# EAGLE library part WSON (library TPS62751DSKT)
WSON package
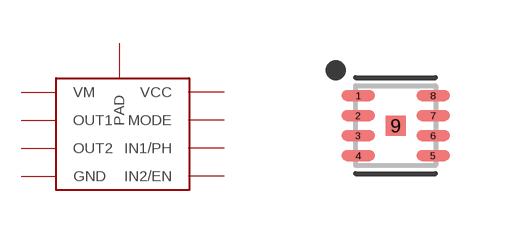
[diagram p0: symbol with the pads of SON50P200X200X75-9T50N; footprint SON50P200X200X75-9T50N]

Designator prefix -

## WSON  [SON50P200X200X75-9T50N]
1  PGND  ?
2  L  ?
3  H/L  ?
4  EN  ?
5  FB  ?
6  AGND  ?
7  ISET_L  ?
8  ISET_U  ?
9  PVIN  ?

## Footprint SON50P200X200X75-9T50N (pad centres in mm)
8-SON (DFN), 0.50 mm pitch, 2.00 X 2.00 X 0.75 mm body, 0.50 X 0.50 mm thermal pad 8-pin SON (DFN) package with 0.50 mm pitch with body size 2.00 X 2.00 X 0.75 mm and thermal pad size 0.50 X 0.50 mm
smd 0.837 x 0.27: 1 -0.937,0.75; 2 -0.937,0.25; 3 -0.937,-0.25; 4 -0.937,-0.75; 5 0.937,-0.75; 6 0.937,-0.25; 7 0.937,0.25; 8 0.937,0.75
smd 0.5 x 0.5: 9 0,0